# EAGLE library part RJ45-S-4 (library TASLink)
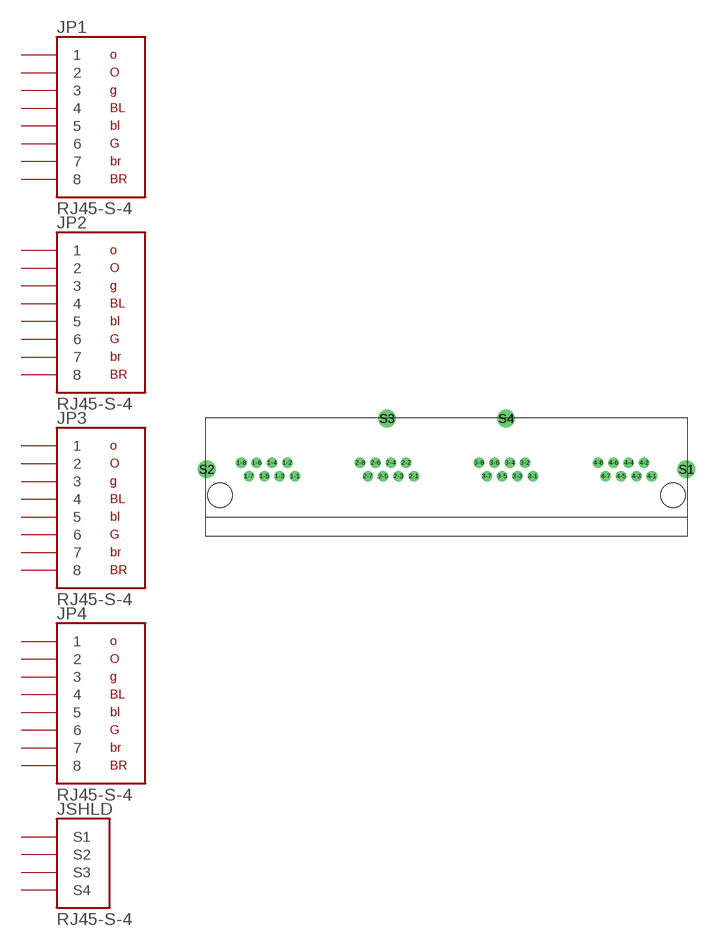
[diagram p3: symbol with the pads of RJ45-S-4; footprint RJ45-S-4]

Designator prefix J; gates P1=RJ45 P2=RJ45 P3=RJ45 P4=RJ45 SHLD=SHLD-4

## RJ45-S-4  [RJ45-S-4]
1-1  P1:1
1-2  P1:2
1-3  P1:3
1-4  P1:4
1-5  P1:5
1-6  P1:6
1-7  P1:7
1-8  P1:8
2-1  P2:1
2-2  P2:2
2-3  P2:3
2-4  P2:4
2-5  P2:5
2-6  P2:6
2-7  P2:7
2-8  P2:8
3-1  P3:1
3-2  P3:2
3-3  P3:3
3-4  P3:4
3-5  P3:5
3-6  P3:6
3-7  P3:7
3-8  P3:8
4-1  P4:1
4-2  P4:2
4-3  P4:3
4-4  P4:4
4-5  P4:5
4-6  P4:6
4-7  P4:7
4-8  P4:8
S1  SHLD:S1
S2  SHLD:S2
S3  SHLD:S3
S4  SHLD:S4

## Footprint RJ45-S-4 (pad centres in mm)
drill 0.889: 1-1 -20.066,2.54; 1-2 -21.082,4.318; 1-3 -22.098,2.54; 1-4 -23.114,4.318; 1-5 -24.13,2.54; 1-6 -25.146,4.318; 1-7 -26.162,2.54; 1-8 -27.178,4.318; 2-1 -4.318,2.54; 2-2 -5.334,4.318; 2-3 -6.35,2.54; 2-4 -7.366,4.318; 2-5 -8.382,2.54; 2-6 -9.398,4.318; 2-7 -10.414,2.54; 2-8 -11.43,4.318; 3-1 11.43,2.54; 3-2 10.414,4.318; 3-3 9.398,2.54; 3-4 8.382,4.318; 3-5 7.366,2.54; 3-6 6.35,4.318; 3-7 5.334,2.54; 3-8 4.318,4.318; 4-1 27.178,2.54; 4-2 26.162,4.318; 4-3 25.146,2.54; 4-4 24.13,4.318; 4-5 23.114,2.54; 4-6 22.098,4.318; 4-7 21.082,2.54; 4-8 20.066,4.318
drill 1.575: S1 31.75,3.429; S2 -31.75,3.429; S3 -7.874,10.16; S4 7.874,10.16
hole 3.251 at -29.972,0
hole 3.251 at 29.972,0